# Altium schematic symbol library TI_National_Semiconductor_LF398N.SchLib: 1 symbol
Pins are listed as number, name and electrical type; pins without a type are passive.

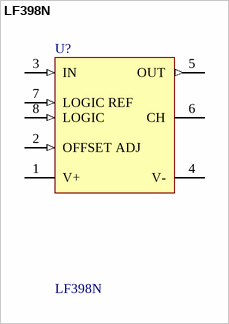
[diagram p0: symbol LF398N]

## LF398N
designator U?
Monolithic Sample and Hold Circuits, 8-pin MDIP; Manufacturer: National Semiconductor; PackageTopMarking: NSUZXYTTE#*LF*398N; PowerWise: N; CompType: Analog IC; PinCount: 8; DatasheetVersion: Jul-2000; Code_JEDEC: MS-001-BA; PackageVersion: revG, May-2006; PackageReference: N08E; PackageDescription: MDIP, .365 x .250 x .130in, 8 Lead, .100in Pitch; RoHS: N; PartNumber: LF398N
footprint N08E
pins: 1 V+ (power), 2 OFFSET ADJ (in), 3 IN (in), 4 V- (power), 5 OUT (out), 6 CH, 7 LOGIC REF (in), 8 LOGIC (in)